# Altium integrated library Altera Arria V GZ.IntLib: 32 symbols (part 19 of 36)
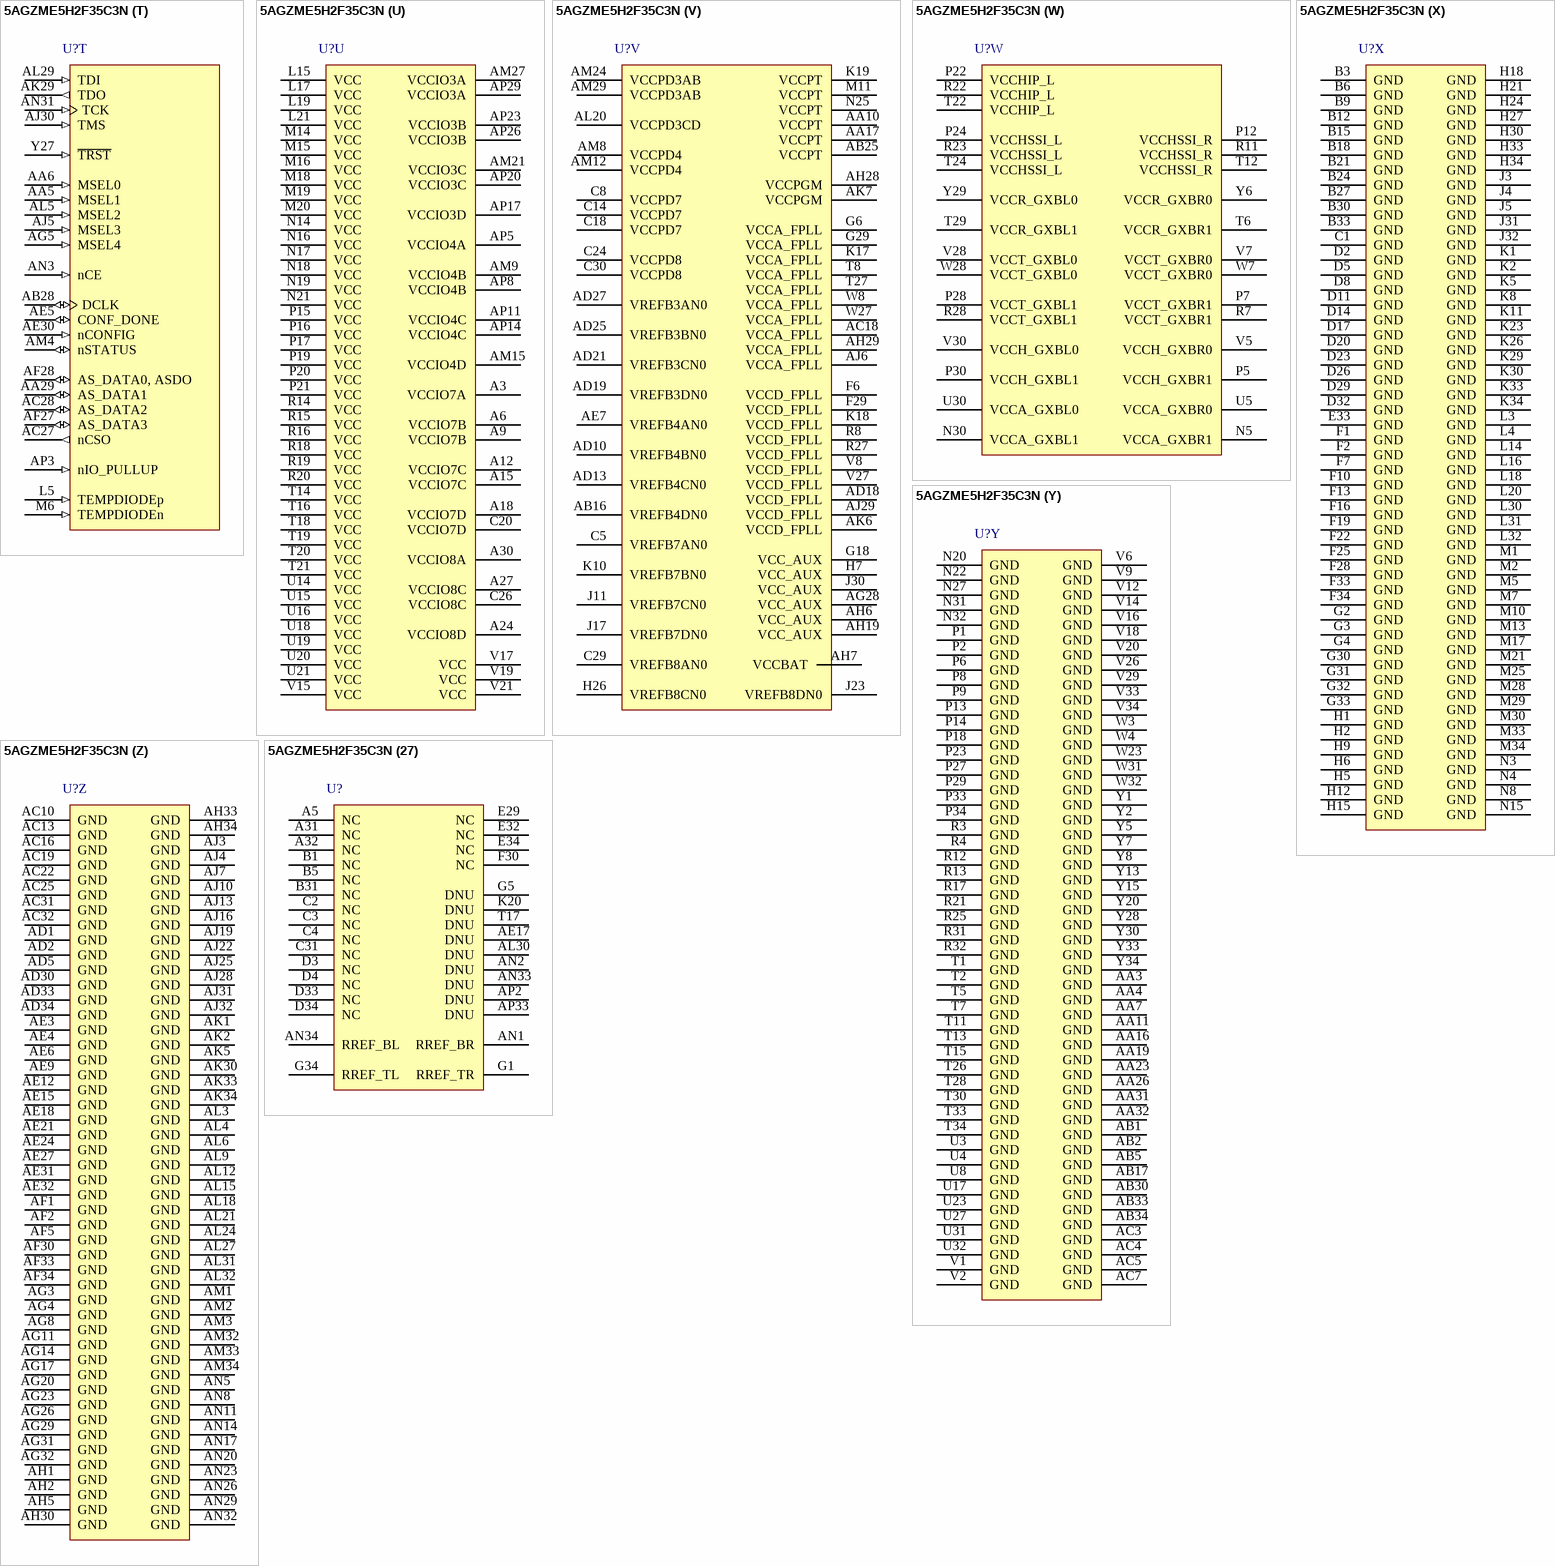
[diagram p218: symbol 5AGZME5H2F35C3N]

## 5AGZME5H2F35C3N (continued)
part Y pins: AA3 GND (power), AA4 GND (power), AA7 GND (power), AA11 GND (power), AA16 GND (power), AA19 GND (power), AA23 GND (power), AA26 GND (power), AA31 GND (power), AA32 GND (power), AB1 GND (power), AB2 GND (power), AB5 GND (power), AB17 GND (power), AB30 GND (power), AB33 GND (power), AB34 GND (power), AC3 GND (power), AC4 GND (power), AC5 GND (power), AC7 GND (power), N20 GND (power), N22 GND (power), N27 GND (power), N31 GND (power), N32 GND (power), P1 GND (power), P2 GND (power), P6 GND (power), P8 GND (power), P9 GND (power), P13 GND (power), P14 GND (power), P18 GND (power), P23 GND (power), P27 GND (power), P29 GND (power), P33 GND (power), P34 GND (power), R3 GND (power), R4 GND (power), R12 GND (power), R13 GND (power), R17 GND (power), R21 GND (power), R25 GND (power), R31 GND (power), R32 GND (power), T1 GND (power), T2 GND (power), T5 GND (power), T7 GND (power), T11 GND (power), T13 GND (power), T15 GND (power), T26 GND (power), T28 GND (power), T30 GND (power), T33 GND (power), T34 GND (power), U3 GND (power), U4 GND (power), U8 GND (power), U17 GND (power), U23 GND (power), U27 GND (power), U31 GND (power), U32 GND (power), V1 GND (power), V2 GND (power), V6 GND (power), V9 GND (power), V12 GND (power), V14 GND (power), V16 GND (power), V18 GND (power), V20 GND (power), V26 GND (power), V29 GND (power), V33 GND (power), V34 GND (power), W3 GND (power), W4 GND (power), W23 GND (power), W31 GND (power), W32 GND (power), Y1 GND (power), Y2 GND (power), Y5 GND (power), Y7 GND (power), Y8 GND (power), Y13 GND (power), Y15 GND (power), Y20 GND (power), Y28 GND (power), Y30 GND (power), Y33 GND (power), Y34 GND (power)
part Z pins: AC10 GND (power), AC13 GND (power), AC16 GND (power), AC19 GND (power), AC22 GND (power), AC25 GND (power), AC31 GND (power), AC32 GND (power), AD1 GND (power), AD2 GND (power), AD5 GND (power), AD30 GND (power), AD33 GND (power), AD34 GND (power), AE3 GND (power), AE4 GND (power), AE6 GND (power), AE9 GND (power), AE12 GND (power), AE15 GND (power), AE18 GND (power), AE21 GND (power), AE24 GND (power), AE27 GND (power), AE31 GND (power), AE32 GND (power), AF1 GND (power), AF2 GND (power), AF5 GND (power), AF30 GND (power), AF33 GND (power), AF34 GND (power), AG3 GND (power), AG4 GND (power), AG8 GND (power), AG11 GND (power), AG14 GND (power), AG17 GND (power), AG20 GND (power), AG23 GND (power), AG26 GND (power), AG29 GND (power), AG31 GND (power), AG32 GND (power), AH1 GND (power), AH2 GND (power), AH5 GND (power), AH30 GND (power), AH33 GND (power), AH34 GND (power), AJ3 GND (power), AJ4 GND (power), AJ7 GND (power), AJ10 GND (power), AJ13 GND (power), AJ16 GND (power), AJ19 GND (power), AJ22 GND (power), AJ25 GND (power), AJ28 GND (power), AJ31 GND (power), AJ32 GND (power), AK1 GND (power), AK2 GND (power), AK5 GND (power), AK30 GND (power), AK33 GND (power), AK34 GND (power), AL3 GND (power), AL4 GND (power), AL6 GND (power), AL9 GND (power), AL12 GND (power), AL15 GND (power), AL18 GND (power), AL21 GND (power), AL24 GND (power), AL27 GND (power), AL31 GND (power), AL32 GND (power), AM1 GND (power), AM2 GND (power), AM3 GND (power), AM32 GND (power), AM33 GND (power), AM34 GND (power), AN5 GND (power), AN8 GND (power), AN11 GND (power), AN14 GND (power), AN17 GND (power), AN20 GND (power), AN23 GND (power), AN26 GND (power), AN29 GND (power), AN32 GND (power)
part 27 pins: A5 NC, A31 NC, A32 NC, AE17 DNU, AL30 DNU, AN1 RREF_BR, AN2 DNU, AN33 DNU, AN34 RREF_BL, AP2 DNU, AP33 DNU, B1 NC, B5 NC, B31 NC, C2 NC, C3 NC, C4 NC, C31 NC, D3 NC, D4 NC, D33 NC, D34 NC, E29 NC, E32 NC, E34 NC, F30 NC, G1 RREF_TR, G5 DNU, G34 RREF_TL, K20 DNU, T17 DNU
part A text: BANK 3A
part B text: BANK 3B
part C text: BANK 3C
part D text: BANK 3D
part E text: BANK 4A
part F text: BANK 4B
part G text: BANK 4C
part H text: BANK 4D
part I text: BANK 7A
part J text: BANK 7B
part K text: BANK 7C
part L text: BANK 7D
part M text: BANK 8A
part N text: BANK 8C
part O text: BANK 8D

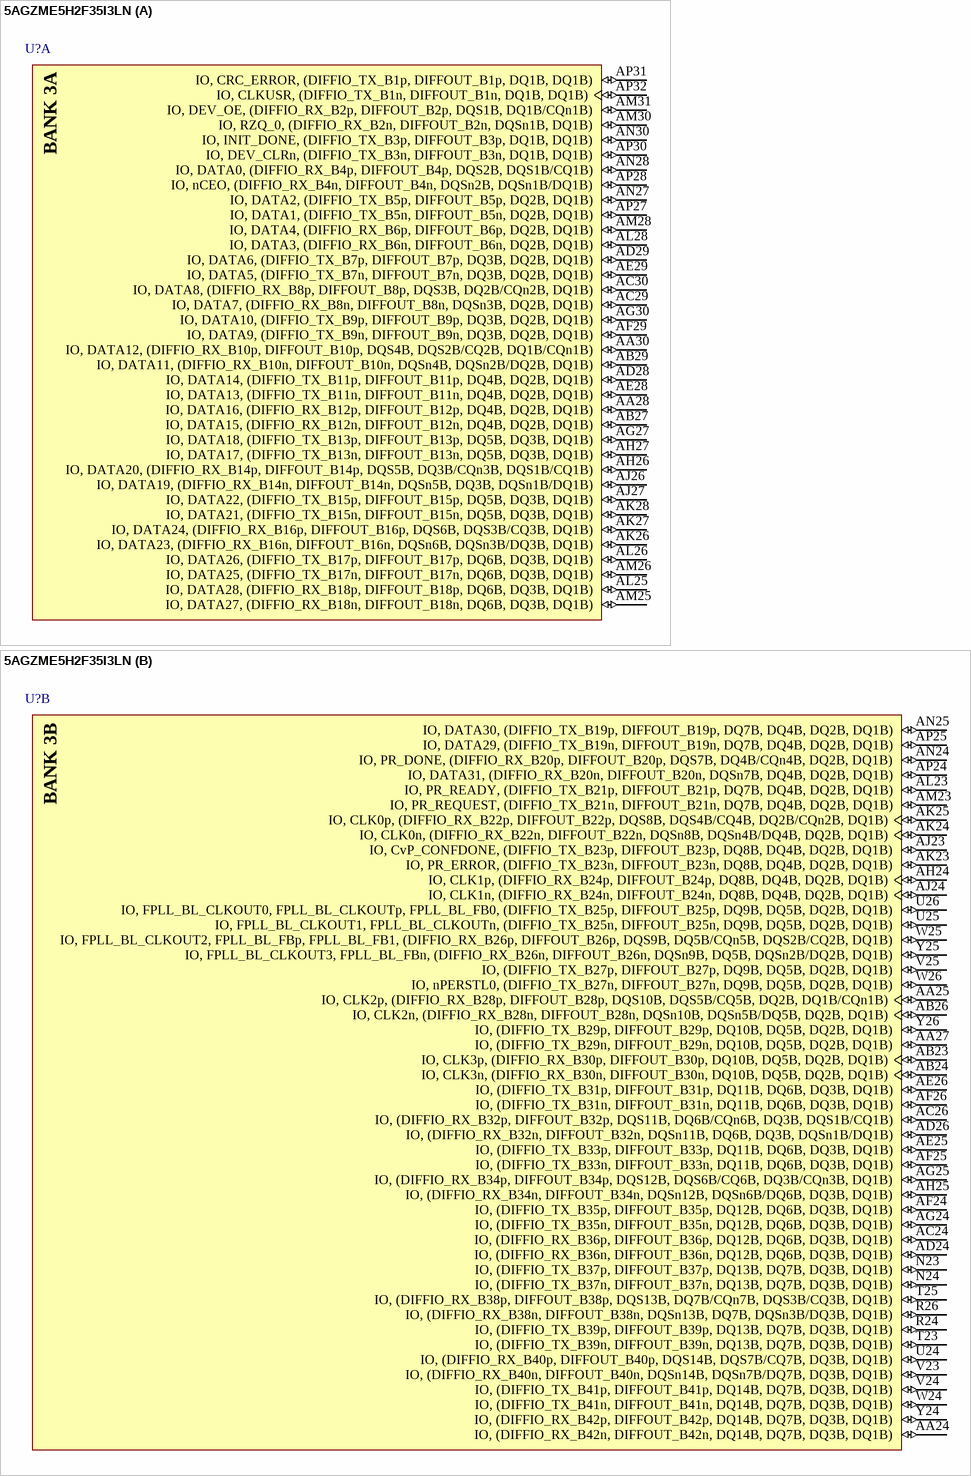
[diagram p80: symbol 5AGZME5H2F35I3LN]

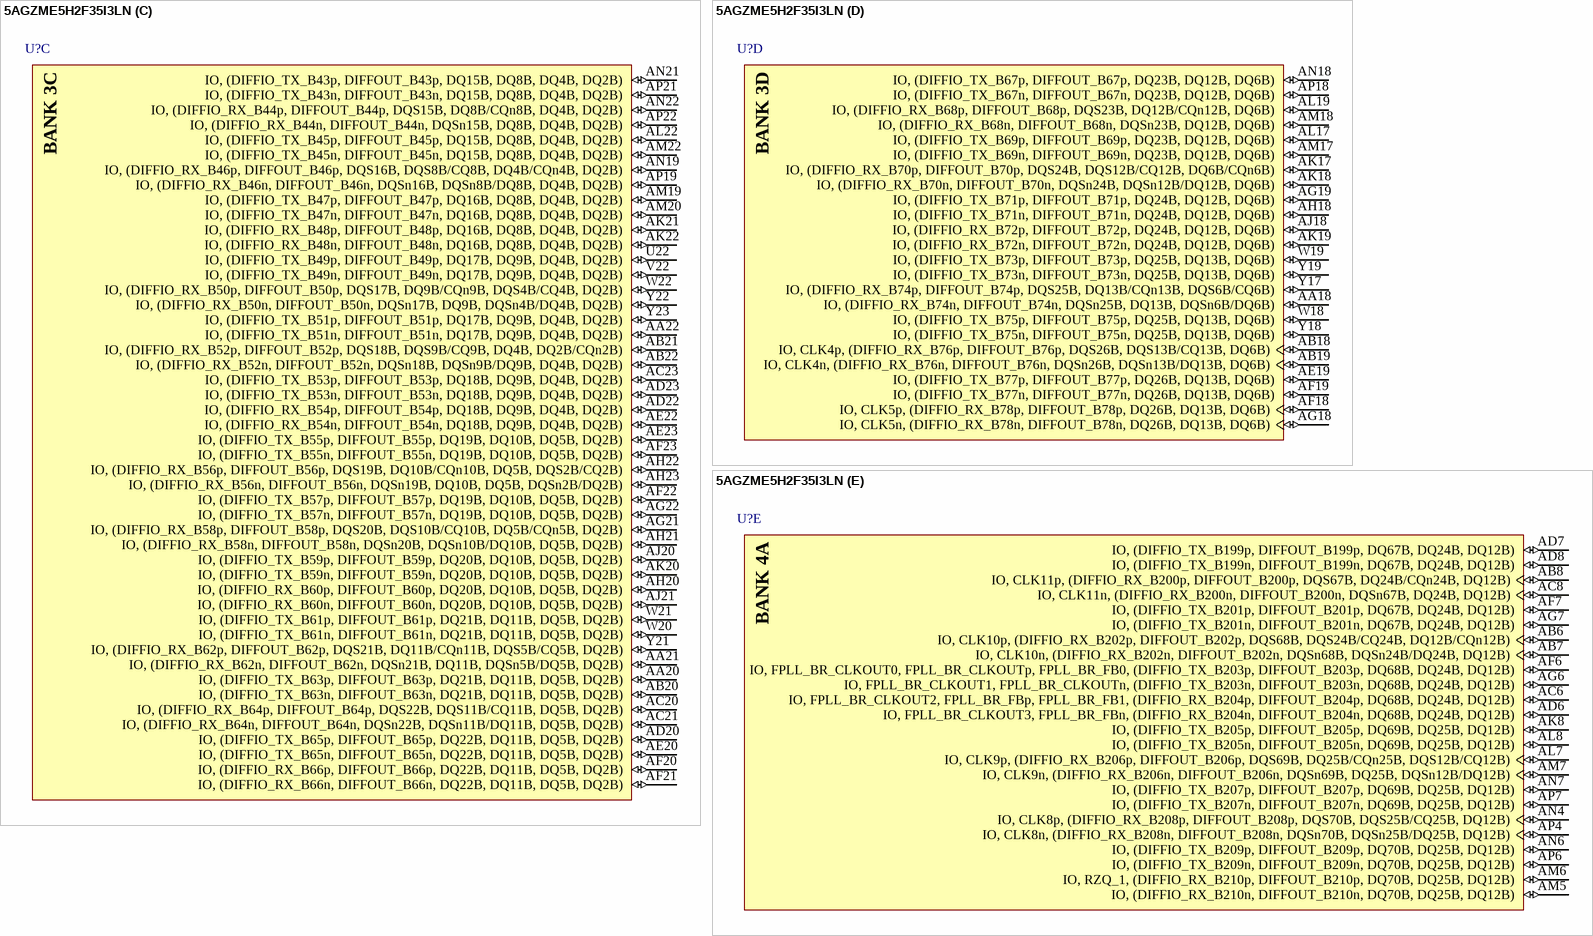
[diagram p81: symbol 5AGZME5H2F35I3LN]

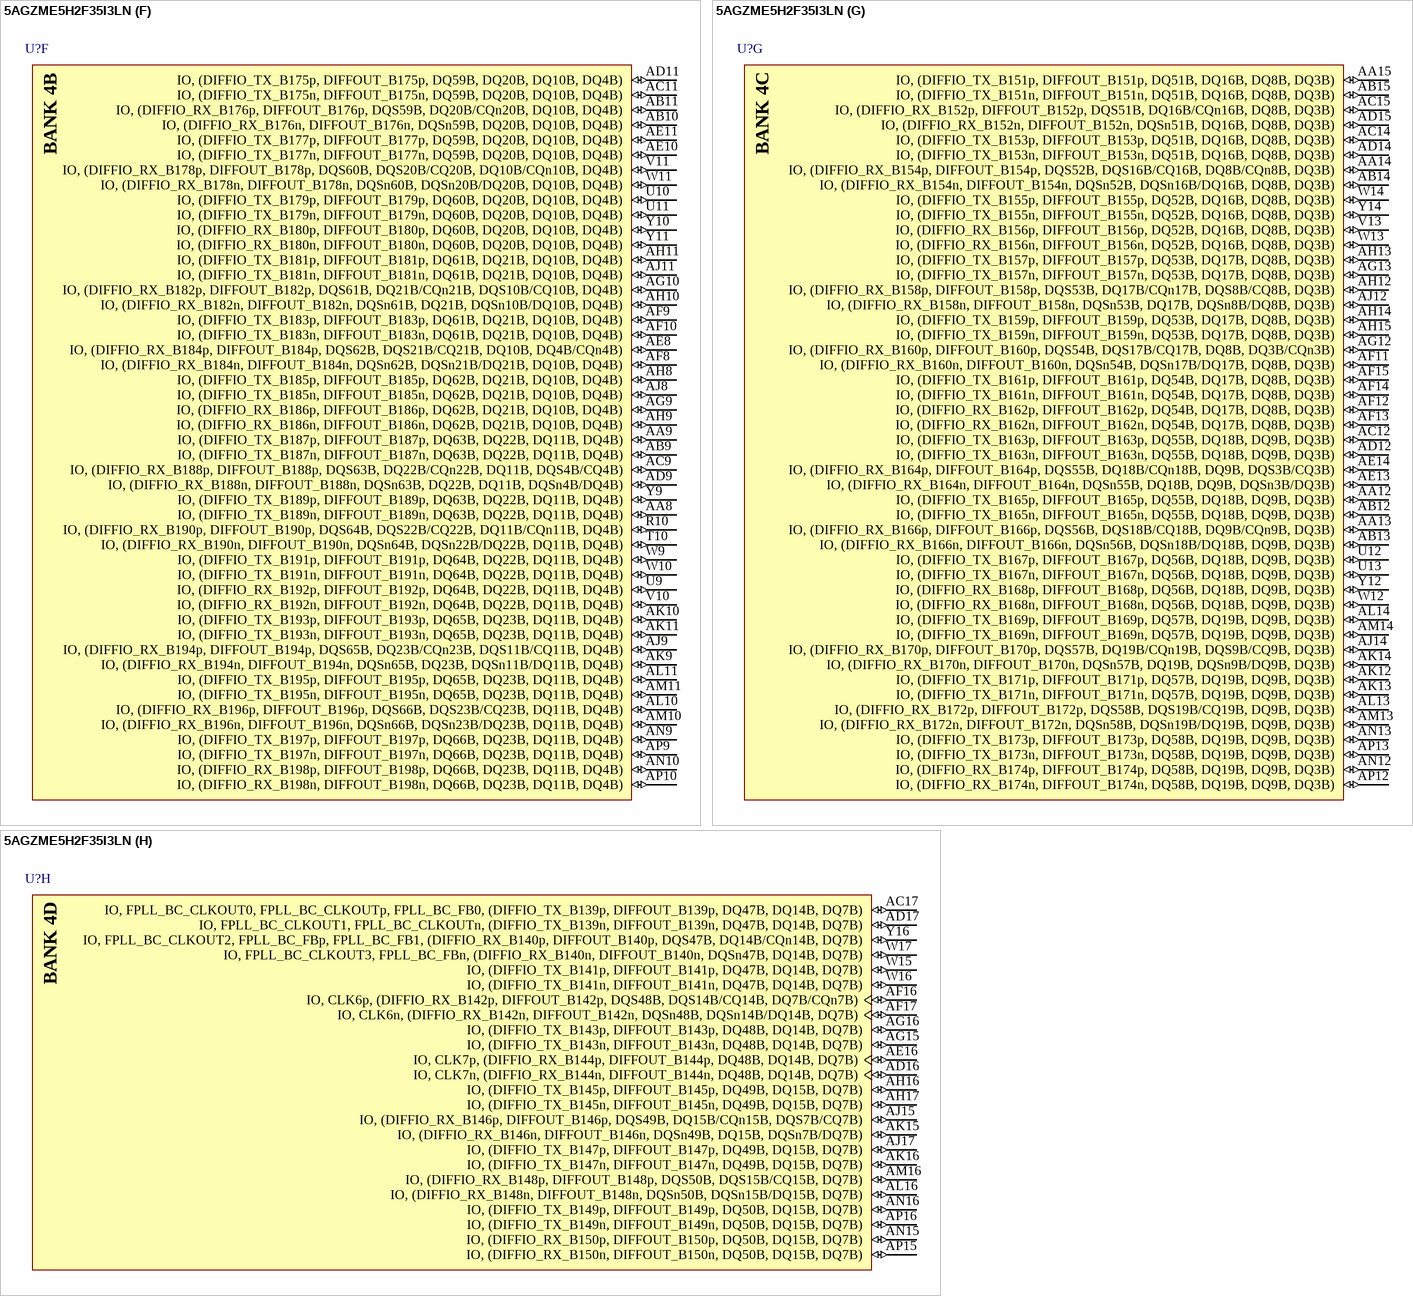
[diagram p82: symbol 5AGZME5H2F35I3LN]

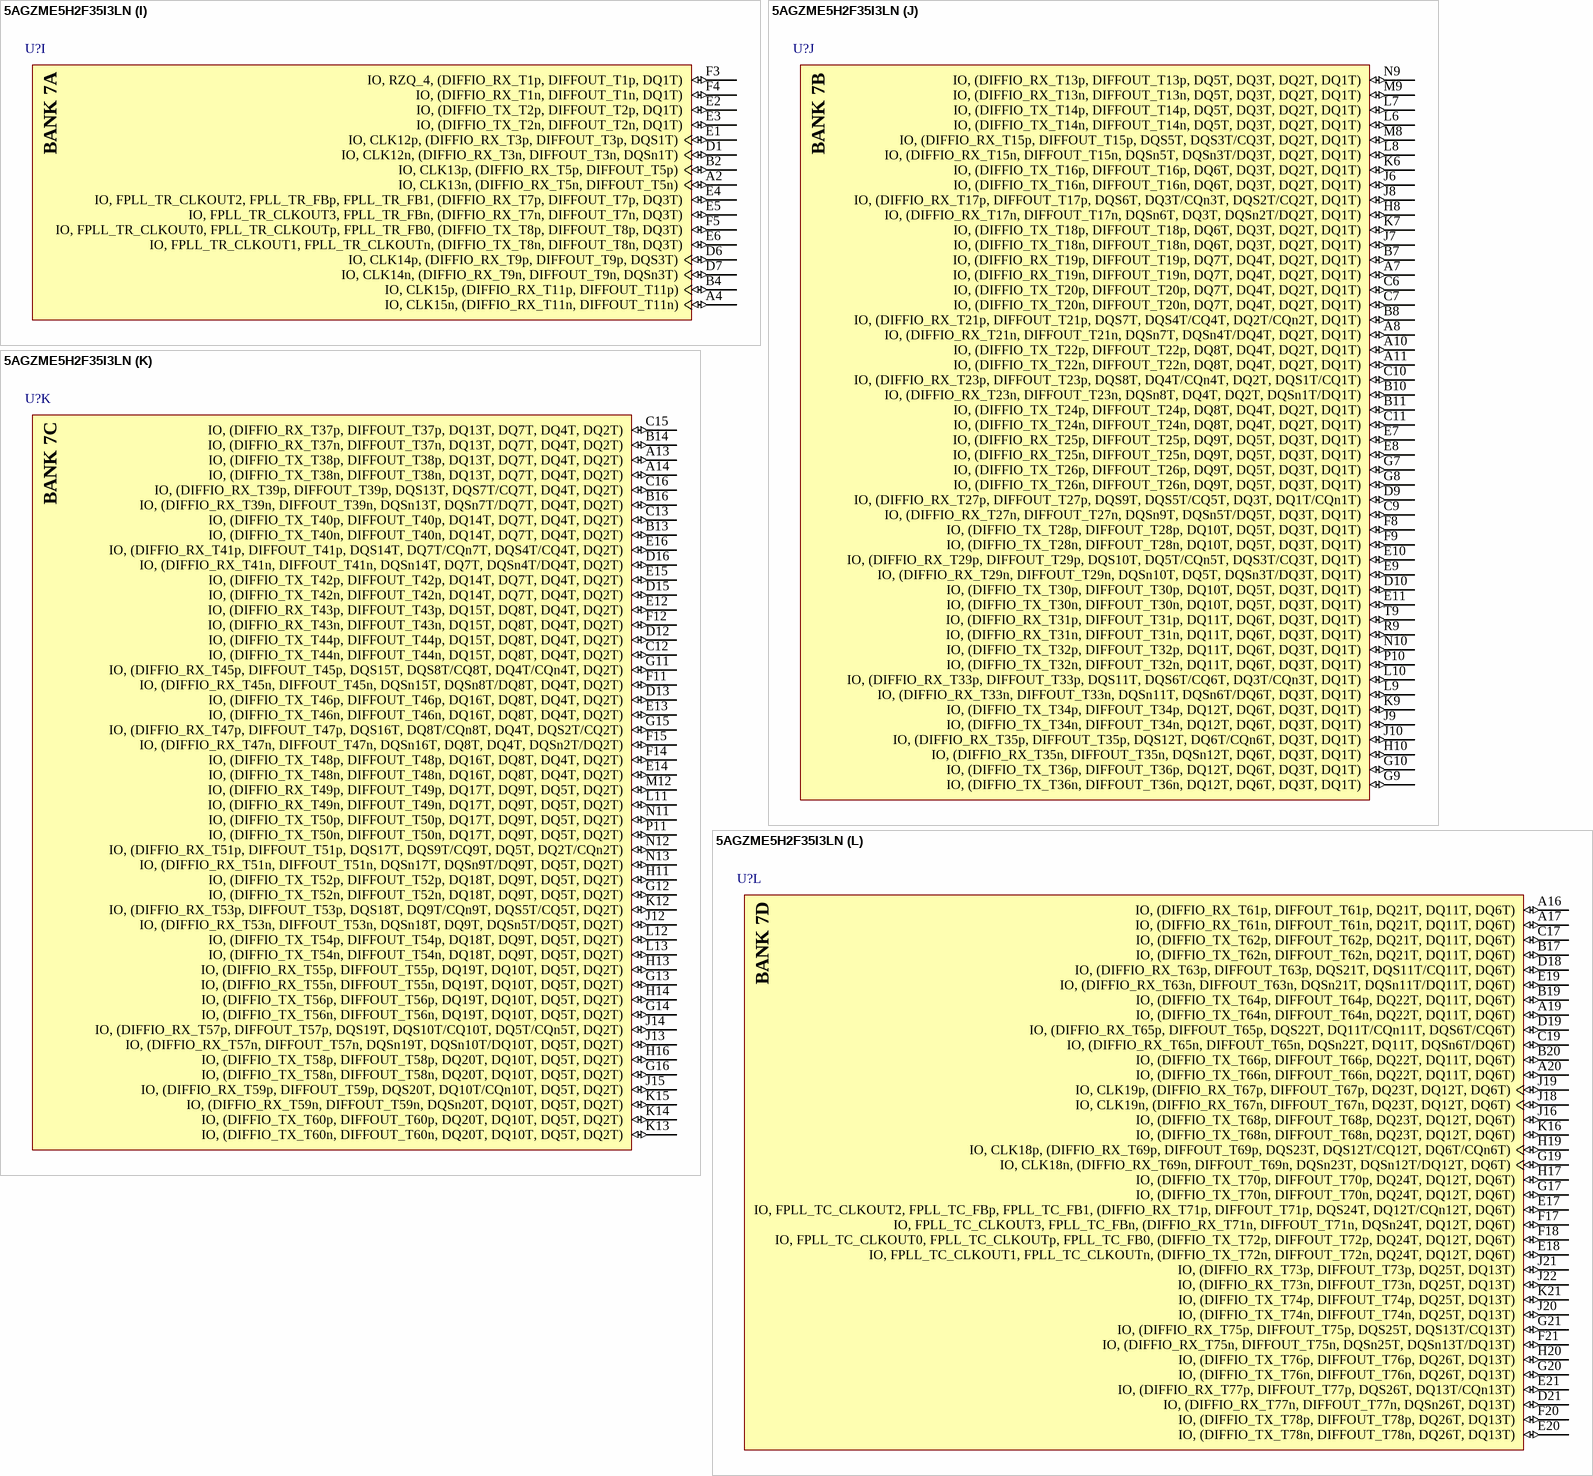
[diagram p83: symbol 5AGZME5H2F35I3LN]

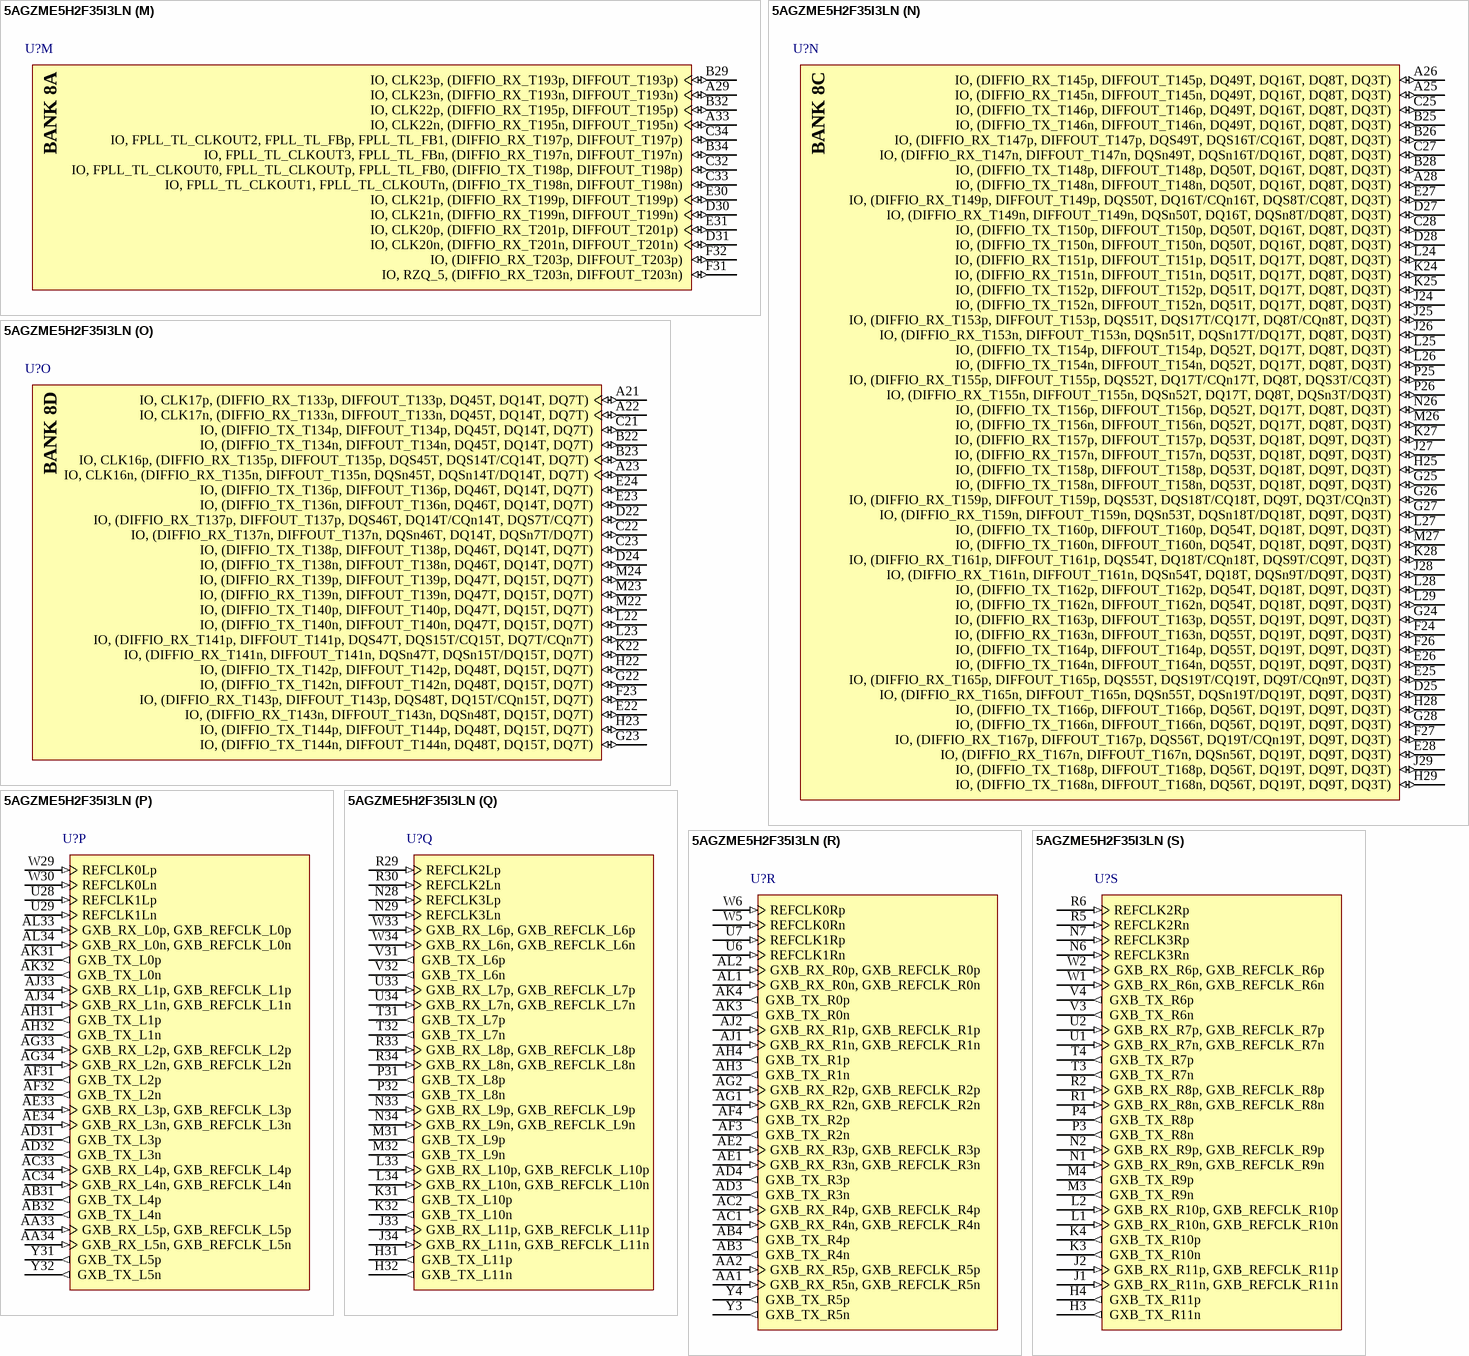
[diagram p84: symbol 5AGZME5H2F35I3LN]

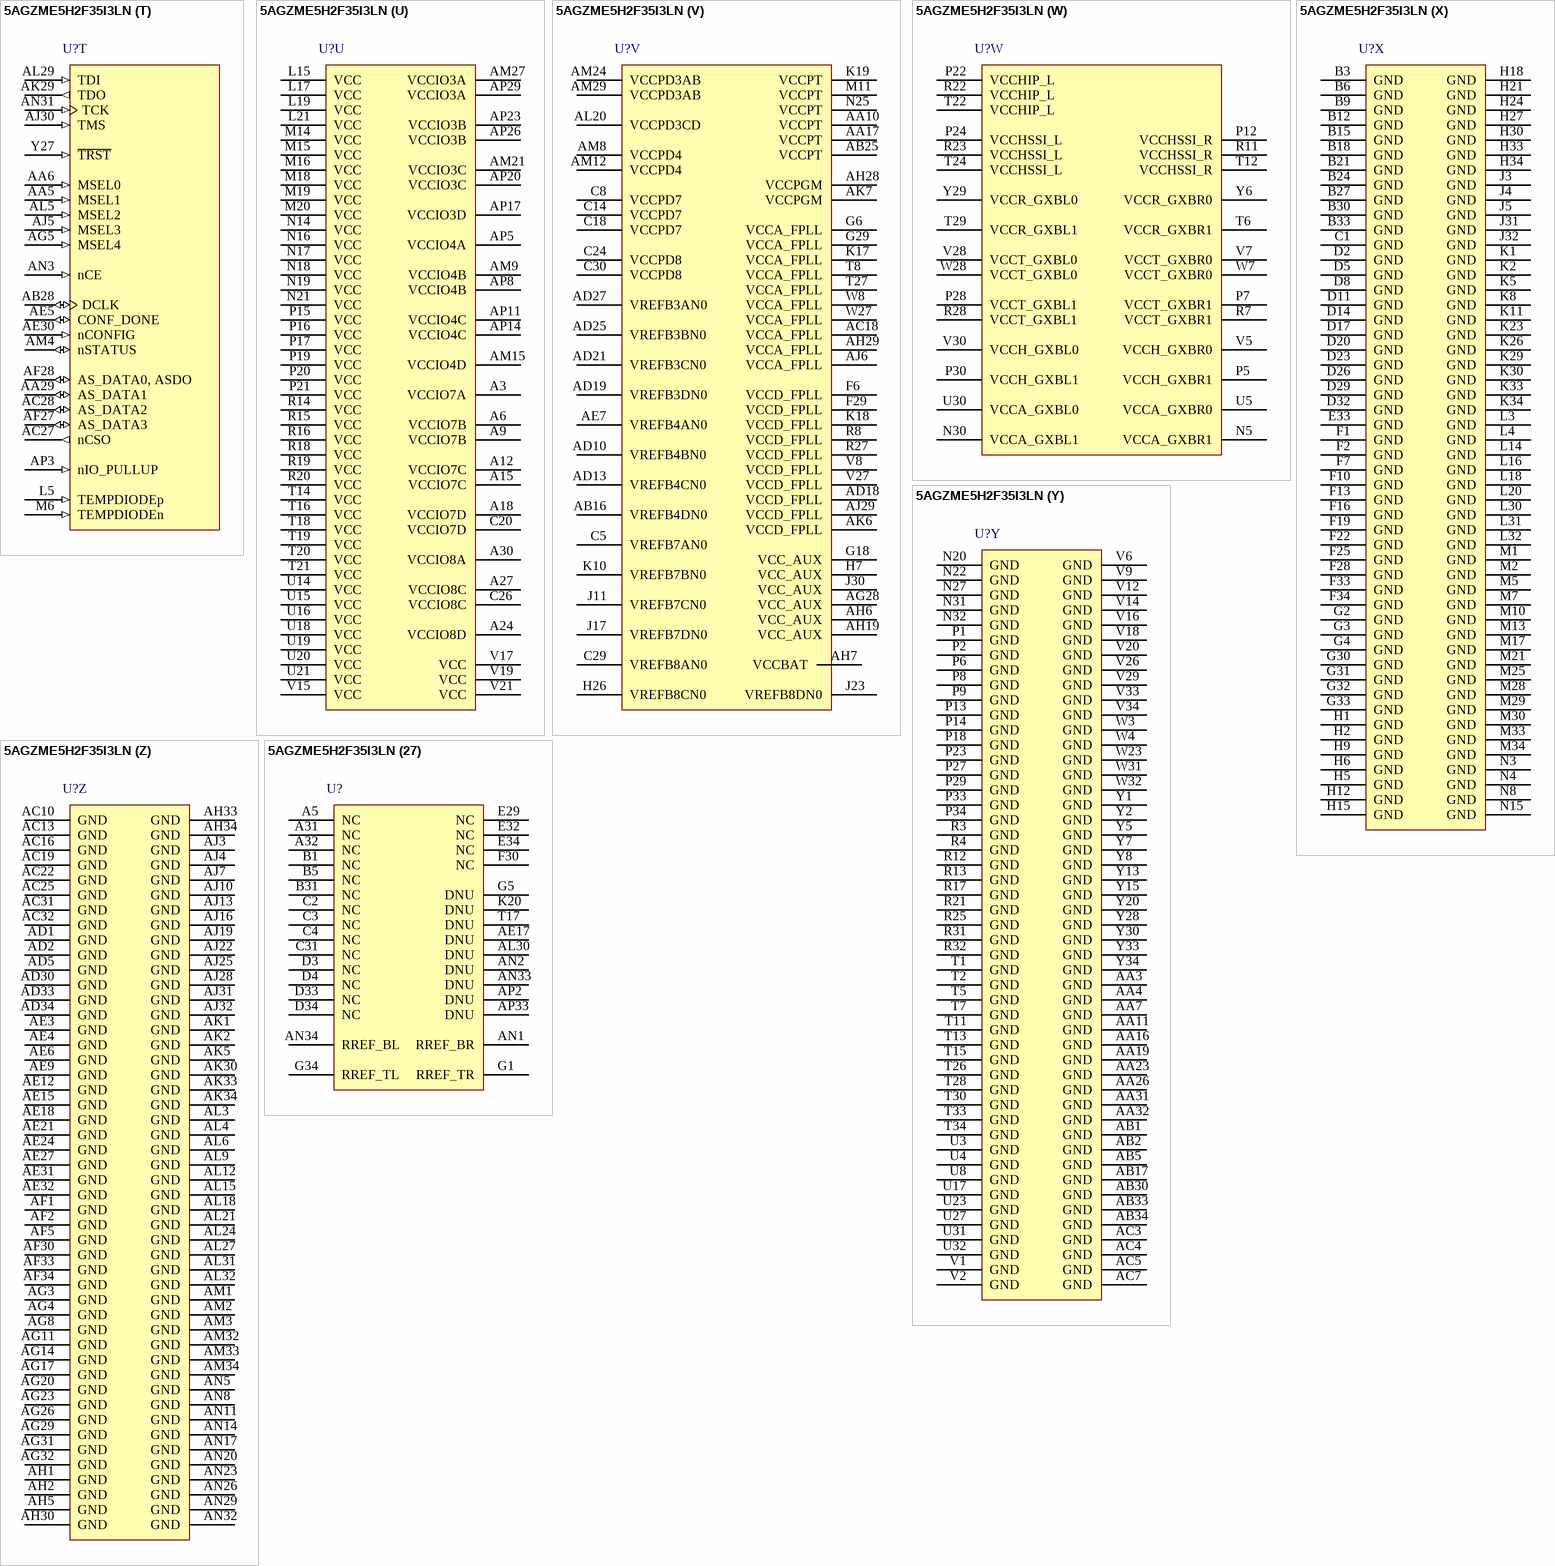
[diagram p85: symbol 5AGZME5H2F35I3LN]